# Altium integrated library Integrated_Library1.IntLib: 10 symbols
Pins are listed as number, name and electrical type; pins without a type are passive.

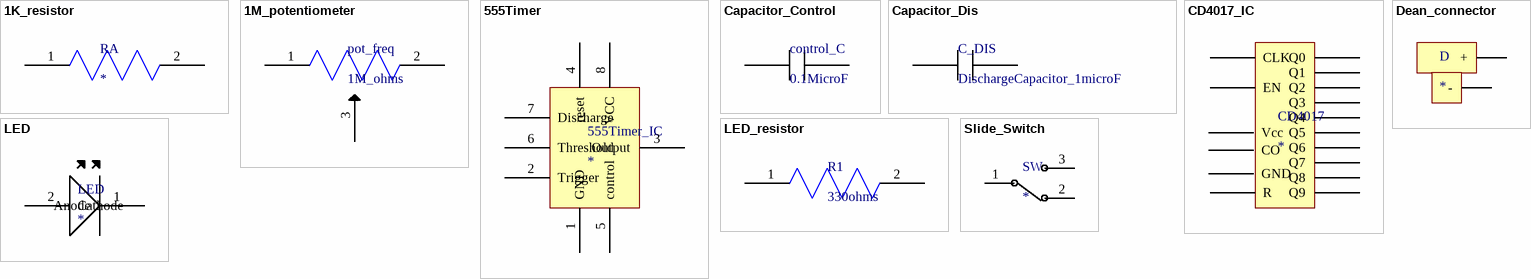
[diagram p0: symbols 1K_resistor to Slide_Switch]

## 1K_resistor
designator RA
footprint 1k_resistor (1Kohms)
pins: 1, 2

## 1M_potentiometer
designator pot_freq, comment 1M_ohms
footprint 1M_potentiometer - duplicate (1Mohms)
pins: 1, 2, 3

## 555Timer
designator 555Timer_IC
footprint 555-timerSocket
pins: 1 GND, 2 Trigger, 3 Output, 4 reset, 5 control, 6 Threshold, 7 Discharge, 8 VCC

## Capacitor_Control
designator control_C, comment 0.1MicroF
footprint Capacitor_control (0.1 MicroF)
pins: 1, 2

## Capacitor_Dis
designator C_DIS, comment DischargeCapacitor_1microF
footprint Capacitor_Discharge (3.3 MicroF)
pins: 1, 2

## CD4017_IC
designator CD4017
footprint CD4017_Socket
pins: 1 Q5, 2 Q1, 3 Q0, 4 Q2, 5 Q6, 6 Q7, 7 Q3, 8 GND, 9 Q8, 10 Q4, 11 Q9, 12 CO, 13 EN "Normal_LOW", 14 CLK, 15 R, 16 Vcc

## Dean_connector
designator D
footprint Dean_connector
pins: 1 -, 2 +

## LED
designator LED
footprint LED
pins: 1 Anode, 2 Cathode

## LED_resistor
designator R1, comment 330ohms
footprint LED_resistor (330ohms)
pins: 1, 2

## Slide_Switch
designator SW
footprint Slide_switch
pins: 1, 2, 3